# EAGLE library part SN74CBT3257C (library range_cape)
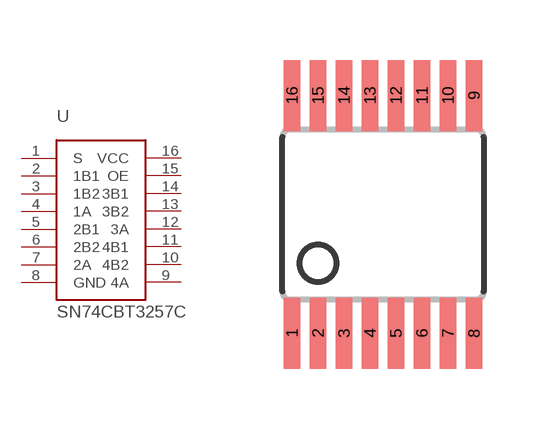
[diagram p9: symbol with the pads of TSSOP-16; footprint TSSOP-16]

Designator prefix -

## SN74CBT3257C  [TSSOP-16]
1  S
2  1B1
3  1B2
4  1A
5  2B1
6  2B2
7  2A
8  GND
9  4A
10  4B2
11  4B1
12  3A
13  3B2
14  3B1
15  OE
16  VCC

## Footprint TSSOP-16 (pad centres in mm)
smd 0.42 x 1.78: 1 -2.275,-2.97; 2 -1.625,-2.97; 3 -0.975,-2.97; 4 -0.325,-2.97; 5 0.325,-2.97; 6 0.975,-2.97; 7 1.625,-2.97; 8 2.275,-2.97; 9 2.275,2.97; 10 1.625,2.97; 11 0.975,2.97; 12 0.325,2.97; 13 -0.325,2.97; 14 -0.975,2.97; 15 -1.625,2.97; 16 -2.275,2.97